# EAGLE library part 1X06-? (library shcustomlib)
Male Pin Header 1x06 Package(s): 0.1" (2.54 mm) Pitch Manufacturer(s): Generic Standard 0.1" (2.54 mm) pitch pin header.
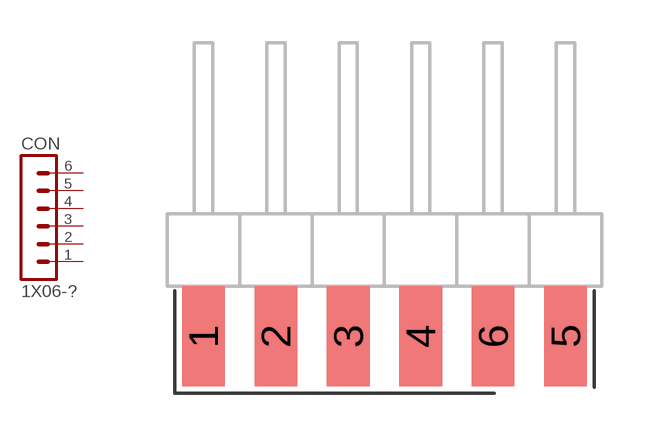
[diagram p7: symbol with the pads of 1X06-EDGEL; footprint 1X06-EDGEL]

Designator prefix CON

## 1X06-EDGEL  [1X06-EDGEL]
1  1  pas
2  2  pas
3  3  pas
4  4  pas
5  5  pas
6  6  pas

## Footprint 1X06-EDGEL (pad centres in mm)
smd 1.5 x 3.5: 1 0,-0.25; 2 2.54,-0.25; 3 5.08,-0.25; 4 7.62,-0.25; 5 12.7,-0.25; 6 10.16,-0.25